# EAGLE library part CONN_1X08 (library GPLIB_CONN)
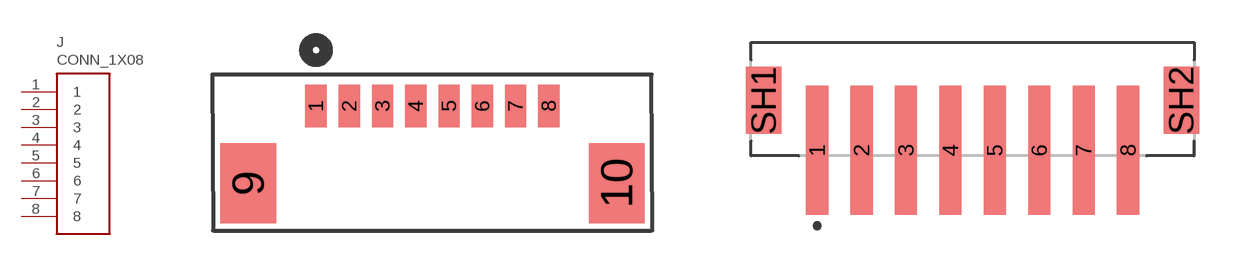
[diagram p55: symbol with the pads of CONN_1X08_1.25MM_SM_ST_12502_SERIES; footprints CONN_1X08_1.25MM_SM_ST_12502_SERIES, CONN_1X08_2.0MM_SM_ST_JST_B8B-PH-SM4-TB]

Designator prefix J

## CONN_1X08_1.25MM_SM_ST_12502_SERIES  [CONN_1X08_1.25MM_SM_ST_12502_SERIES]
1  1  pas
2  2  pas
3  3  pas
4  4  pas
5  5  pas
6  6  pas
7  7  pas
8  8  pas

## CONN_1X08_2.0MM_SM_ST_JST_B8B-PH-SM4-TB  [CONN_1X08_2.0MM_SM_ST_JST_B8B-PH-SM4-TB]
Pads as for CONN_1X08_1.25MM_SM_ST_12502_SERIES

## Footprint CONN_1X08_1.25MM_SM_ST_12502_SERIES (pad centres in mm)
smd 0.8 x 1.6: 1 -4.375,2.9; 2 -3.125,2.9; 3 -1.875,2.9; 4 -0.625,2.9; 5 0.625,2.9; 6 1.875,2.9; 7 3.125,2.9; 8 4.375,2.9
smd 2.1 x 3: 9 -6.925,0; 10 6.925,0

## Footprint CONN_1X08_2.0MM_SM_ST_JST_B8B-PH-SM4-TB (pad centres in mm)
smd 1 x 5.8: 1 -7,-1.125; 2 -5,-1.125; 3 -3,-1.125; 4 -1,-1.125; 5 1,-1.125; 6 3,-1.125; 7 5,-1.125; 8 7,-1.125
smd 1.6 x 3: SH1 -9.4,1.125; SH2 9.4,1.125